# EAGLE library part 6N137S(TA)-V_OPTOCOUPLER (library hsk_2012)
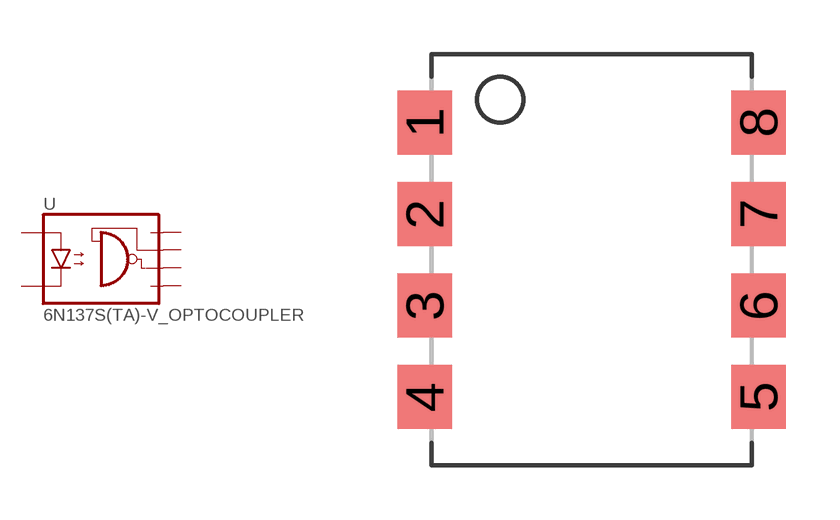
[diagram p11: symbol with the pads of SMD-8; footprint SMD-8]

Designator prefix -

## 6N137S(TA)-V_OPTOCOUPLER  [SMD-8]
2  A  in
3  C  out
5  GND  sup
6  VO  out
7  VE  in
8  VCC  pwr

## Footprint SMD-8 (pad centres in mm)
smd 1.52 x 1.78: 1 -4.635,3.81; 2 -4.635,1.27; 3 -4.635,-1.27; 4 -4.635,-3.81; 5 4.635,-3.81; 6 4.635,-1.27; 7 4.635,1.27; 8 4.635,3.81